# EAGLE library part INA199 (library CougsInSpace-IC-Amplifiers)
INA199 Current-sense amplifier
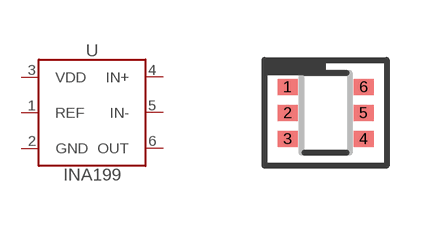
[diagram p1: symbol with the pads of SOT363; footprint SOT363]

Designator prefix U

## INA199C1 (GAIN: 50 V/V; SKU: 08-0003; VALUE: INA199C1), INA199C2 (GAIN: 100 V/V; SKU: 08-0004; VALUE: INA199C2)  [SOT363]
1  REF  in
2  GND  pwr
3  VDD  pwr
4  IN+  in
5  IN-  in
6  OUT  out

## Footprint SOT363 (pad centres in mm)
SOT363 (SC70-6)
smd 0.5 x 0.4: 1 -0.95,0.65; 2 -0.95,0; 3 -0.95,-0.65; 4 0.95,-0.65; 5 0.95,0; 6 0.95,0.65